# Altium integrated library Altium_WE-TVS (rev20a).IntLib: 32 symbols
Pins are listed as number, name and electrical type; pins without a type are passive.

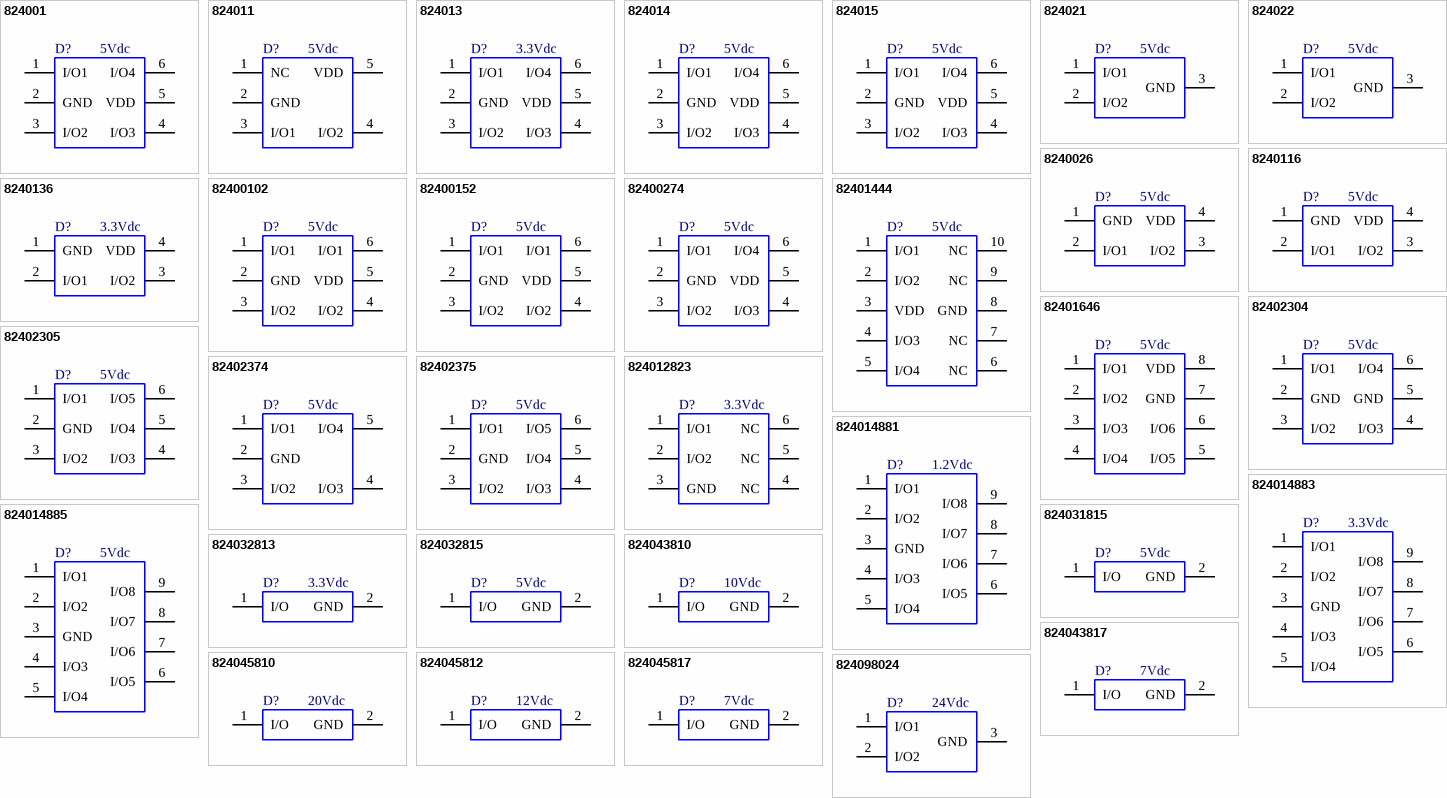
[diagram p0: symbols 824001 to 824098024]

## 824001
designator D?, comment 5Vdc
WE-TVS TVS Diode - High Speed Series, SOT23-6L, 4+1Channel, 5Vdc; Manufacturer Part Number: 824001; Manufacturer: Wurth Elektronik; Reverse Breakdown Voltage min.: 6.2V; Channel: 4+1; Channel Input Capacitance: 1pF; Reverse Peak Pulse Current: 5A; Reverse Channel Leakage Current: 5uA; DC Operating Voltage: 5V; ComponentLink1Description: Manufacturer; ComponentLink1URL: http://www.we-online.de; ComponentLink2Description: Datasheet; ComponentLink2URL: https://www.we-online.com/catalog/datasheet/824001.pdf; Published Date: April 2020; Size: SOT23-6L; Operating Temperature: -40 to +125degC; Mounting Technology: SMT; Packaging: Tape and Reel
footprint WE-TVS_SOT23-6L
pins: 1 I/O1, 2 GND, 3 I/O2, 4 I/O3, 5 VDD, 6 I/O4

## 824011
designator D?, comment 5Vdc
WE-TVS TVS Diode - High Speed Series, SOT23-5L, 2+1Channel, 5Vdc; Manufacturer Part Number: 824011; Manufacturer: Wurth Elektronik; Reverse Breakdown Voltage min.: 6.1V; Channel: 2+1; Channel Input Capacitance: 2pF; Reverse Peak Pulse Current: 12A; Reverse Channel Leakage Current: 5uA; DC Operating Voltage: 5V; ComponentLink1Description: Manufacturer; ComponentLink1URL: http://www.we-online.de; ComponentLink2Description: Datasheet; ComponentLink2URL: https://www.we-online.com/catalog/datasheet/824011.pdf; Published Date: April 2020; Size: SOT23-5L; Operating Temperature: -55 to +125degC; Mounting Technology: SMT; Packaging: Tape and Reel
footprint WE-TVS_SOT23-5L
pins: 1 NC, 2 GND, 3 I/O1, 4 I/O2, 5 VDD

## 824013
designator D?, comment 3.3Vdc
WE-TVS TVS Diode - High Speed Series, SOT23-6L, 4+1Channel, 3.3Vdc; Manufacturer Part Number: 824013; Manufacturer: Wurth Elektronik; Reverse Breakdown Voltage min.: 4.5V; Channel: 4+1; Channel Input Capacitance: 3pF; Reverse Peak Pulse Current: 12A; Reverse Channel Leakage Current: 5uA; DC Operating Voltage: 3.3V; ComponentLink1Description: Manufacturer; ComponentLink1URL: http://www.we-online.de; ComponentLink2Description: Datasheet; ComponentLink2URL: https://www.we-online.com/catalog/datasheet/824013.pdf; Published Date: April 2020; Size: SOT23-6L; Operating Temperature: -40 to +125degC; Mounting Technology: SMT; Packaging: Tape and Reel
footprint WE-TVS_SOT23-6L
pins: 1 I/O1, 2 GND, 3 I/O2, 4 I/O3, 5 VDD, 6 I/O4

## 824014
designator D?, comment 5Vdc
WE-TVS TVS Diode - Super Speed Series, SOT23-6L, 4+1Channel, 5Vdc; Manufacturer Part Number: 824014; Manufacturer: Wurth Elektronik; Reverse Breakdown Voltage min.: 6V; Channel: 4+1; Channel Input Capacitance: 0.55pF; Reverse Peak Pulse Current: 4A; Reverse Channel Leakage Current: 5uA; DC Operating Voltage: 5V; ComponentLink1Description: Manufacturer; ComponentLink1URL: http://www.we-online.de; ComponentLink2Description: Datasheet; ComponentLink2URL: https://www.we-online.com/catalog/datasheet/824014.pdf; Published Date: April 2020; Size: SOT23-6L; Operating Temperature: -55 to +85degC; Mounting Technology: SMT; Packaging: Tape and Reel
footprint WE-TVS_SOT23-6L
pins: 1 I/O1, 2 GND, 3 I/O2, 4 I/O3, 5 VDD, 6 I/O4

## 824015
designator D?, comment 5Vdc
WE-TVS TVS Diode - High Speed Series, SOT23-6L, 4+1Channel, 5Vdc; Manufacturer Part Number: 824015; Manufacturer: Wurth Elektronik; Reverse Breakdown Voltage min.: 6.1V; Channel: 4+1; Channel Input Capacitance: 2pF; Reverse Peak Pulse Current: 12A; Reverse Channel Leakage Current: 2uA; DC Operating Voltage: 5V; ComponentLink1Description: Manufacturer; ComponentLink1URL: http://www.we-online.de; ComponentLink2Description: Datasheet; ComponentLink2URL: https://www.we-online.com/catalog/datasheet/824015.pdf; Published Date: April 2020; Size: SOT23-6L; Operating Temperature: -40 to +125degC; Mounting Technology: SMT; Packaging: Tape and Reel
footprint WE-TVS_SOT23-6L
pins: 1 I/O1, 2 GND, 3 I/O2, 4 I/O3, 5 VDD, 6 I/O4

## 824021
designator D?, comment 5Vdc
WE-TVS TVS Diode - Standard Series, SOT23-3L, 2Channel, 5Vdc; Manufacturer Part Number: 824021; Manufacturer: Wurth Elektronik; Reverse Breakdown Voltage min.: 6.1V; Channel: 2; Channel Input Capacitance: 55pF; Reverse Peak Pulse Current: 15A; Reverse Channel Leakage Current: 2.5uA; DC Operating Voltage: 5V; ComponentLink1Description: Manufacturer; ComponentLink1URL: http://www.we-online.de; ComponentLink2Description: Datasheet; ComponentLink2URL: https://www.we-online.com/catalog/datasheet/824021.pdf; Published Date: April 2020; Size: SOT23-3L; Operating Temperature: -55 to +125degC; Mounting Technology: SMT; Packaging: Tape and Reel
footprint WE-TVS_SOT23-3L
pins: 1 I/O1, 2 I/O2, 3 GND

## 824022
designator D?, comment 5Vdc
WE-TVS TVS Diode - Standard Series, SOT23-3L, 2Channel, 5Vdc; Manufacturer Part Number: 824022; Manufacturer: Wurth Elektronik; Reverse Breakdown Voltage min.: 6.1V; Channel: 2; Channel Input Capacitance: 12pF; Reverse Peak Pulse Current: 8A; Reverse Channel Leakage Current: 2.5uA; DC Operating Voltage: 5V; ComponentLink1Description: Manufacturer; ComponentLink1URL: http://www.we-online.de; ComponentLink2Description: Datasheet; ComponentLink2URL: https://www.we-online.com/catalog/datasheet/824022.pdf; Published Date: April 2020; Size: SOT23-3L; Operating Temperature: -55 to +125degC; Mounting Technology: SMT; Packaging: Tape and Reel
footprint WE-TVS_SOT23-3L
pins: 1 I/O1, 2 I/O2, 3 GND

## 8240026
designator D?, comment 5Vdc
WE-TVS TVS Diode - High Speed Series, SOT143-4L, 2+1Channel, 5Vdc; Manufacturer Part Number: 8240026; Manufacturer: Wurth Elektronik; Reverse Breakdown Voltage min.: 6V; Channel: 2+1; Channel Input Capacitance: 1.2pF; Reverse Peak Pulse Current: 6A; Reverse Channel Leakage Current: 1uA; DC Operating Voltage: 5V; ComponentLink1Description: Manufacturer; ComponentLink1URL: http://www.we-online.de; ComponentLink2Description: Datasheet; ComponentLink2URL: https://www.we-online.com/catalog/datasheet/8240026.pdf; Published Date: April 2020; Size: SOT143-4L; Operating Temperature: -55 to +125degC; Mounting Technology: SMT; Packaging: Tape and Reel
footprint WE-TVS_SOT143-4L
pins: 1 GND, 2 I/O1, 3 I/O2, 4 VDD

## 8240116
designator D?, comment 5Vdc
WE-TVS TVS Diode - High Speed Series, SOT143-4L, 2+1Channel, 5Vdc; Manufacturer Part Number: 8240116; Manufacturer: Wurth Elektronik; Reverse Breakdown Voltage min.: 6.1V; Channel: 2+1; Channel Input Capacitance: 2pF; Reverse Peak Pulse Current: 12A; Reverse Channel Leakage Current: 5uA; DC Operating Voltage: 5V; ComponentLink1Description: Manufacturer; ComponentLink1URL: http://www.we-online.de; ComponentLink2Description: Datasheet; ComponentLink2URL: https://www.we-online.com/catalog/datasheet/8240116.pdf; Published Date: April 2020; Size: SOT143-4L; Operating Temperature: -55 to +125degC; Mounting Technology: SMT; Packaging: Tape and Reel
footprint WE-TVS_SOT143-4L
pins: 1 GND, 2 I/O1, 3 I/O2, 4 VDD

## 8240136
designator D?, comment 3.3Vdc
WE-TVS TVS Diode - High Speed Series, SOT143-4L, 2+1Channel, 3.3Vdc; Manufacturer Part Number: 8240136; Manufacturer: Wurth Elektronik; Reverse Breakdown Voltage min.: 4.5V; Channel: 2+1; Channel Input Capacitance: 3pF; Reverse Peak Pulse Current: 12A; Reverse Channel Leakage Current: 5uA; DC Operating Voltage: 3.3V; ComponentLink1Description: Manufacturer; ComponentLink1URL: http://www.we-online.de; ComponentLink2Description: Datasheet; ComponentLink2URL: https://www.we-online.com/catalog/datasheet/8240136.pdf; Published Date: April 2020; Size: SOT143-4L; Operating Temperature: -55 to +125degC; Mounting Technology: SMT; Packaging: Tape and Reel
footprint WE-TVS_SOT143-4L
pins: 1 GND, 2 I/O1, 3 I/O2, 4 VDD

## 82400102
designator D?, comment 5Vdc
WE-TVS TVS Diode - High Speed Series, SOT23-6L, 2+1Channel, 5Vdc; Manufacturer Part Number: 82400102; Manufacturer: Wurth Elektronik; Reverse Breakdown Voltage min.: 6V; Channel: 2+1; Channel Input Capacitance: 2pF; Reverse Peak Pulse Current: 6A; Reverse Channel Leakage Current: 5uA; DC Operating Voltage: 5V; ComponentLink1Description: Manufacturer; ComponentLink1URL: http://www.we-online.de; ComponentLink2Description: Datasheet; ComponentLink2URL: https://www.we-online.com/catalog/datasheet/82400102.pdf; Published Date: April 2020; Size: SOT23-6L; Operating Temperature: -40 to +125degC; Mounting Technology: SMT; Packaging: Tape and Reel
footprint WE-TVS_SOT23-6L
pins: 1 I/O1, 2 GND, 3 I/O2, 4 I/O2, 5 VDD, 6 I/O1

## 82400152
designator D?, comment 5Vdc
WE-TVS TVS Diode - High Speed Series, SOT563, 2+1Channel, 5Vdc; Manufacturer Part Number: 82400152; Manufacturer: Wurth Elektronik; Reverse Breakdown Voltage min.: 6V; Channel: 2+1; Channel Input Capacitance: 2pF; Reverse Peak Pulse Current: 6A; Reverse Channel Leakage Current: 5uA; DC Operating Voltage: 5V; ComponentLink1Description: Manufacturer; ComponentLink1URL: http://www.we-online.de; ComponentLink2Description: Datasheet; ComponentLink2URL: https://www.we-online.com/catalog/datasheet/82400152.pdf; Published Date: April 2020; Size: SOT563; Operating Temperature: -40 to +125degC; Mounting Technology: SMT; Packaging: Tape and Reel
footprint WE-TVS_SOT563
pins: 1 I/O1, 2 GND, 3 I/O2, 4 I/O2, 5 VDD, 6 I/O1

## 82400274
designator D?, comment 5Vdc
WE-TVS TVS Diode - High Speed Series, SC70-6L, 4+1Channel, 5Vdc; Manufacturer Part Number: 82400274; Manufacturer: Wurth Elektronik; Reverse Breakdown Voltage min.: 6V; Channel: 4+1; Channel Input Capacitance: 1.2pF; Reverse Peak Pulse Current: 6A; Reverse Channel Leakage Current: 5uA; DC Operating Voltage: 5V; ComponentLink1Description: Manufacturer; ComponentLink1URL: http://www.we-online.de; ComponentLink2Description: Datasheet; ComponentLink2URL: https://www.we-online.com/catalog/datasheet/82400274.pdf; Published Date: April 2020; Size: SC70-6L; Operating Temperature: -55 to +85degC; Mounting Technology: SMT; Packaging: Tape and Reel
footprint WE-TVS_SC70-6L
pins: 1 I/O1, 2 GND, 3 I/O2, 4 I/O3, 5 VDD, 6 I/O4

## 82401444
designator D?, comment 5Vdc
WE-TVS TVS Diode - Super Speed Series, MSOP-10L, 4+1Channel, 5Vdc; Manufacturer Part Number: 82401444; Manufacturer: Wurth Elektronik; Reverse Breakdown Voltage min.: 6V; Channel: 4+1; Channel Input Capacitance: 0.6pF; Reverse Peak Pulse Current: 5A; Reverse Channel Leakage Current: 5uA; DC Operating Voltage: 5V; ComponentLink1Description: Manufacturer; ComponentLink1URL: http://www.we-online.de; ComponentLink2Description: Datasheet; ComponentLink2URL: https://www.we-online.com/catalog/datasheet/82401444.pdf; Published Date: April 2020; Size: MSOP-10L; Operating Temperature: -55 to +85degC; Mounting Technology: SMT; Packaging: Tape and Reel
footprint WE-TVS_MSOP-10L
pins: 1 I/O1, 2 I/O2, 3 VDD, 4 I/O3, 5 I/O4, 6 NC, 7 NC, 8 GND, 9 NC, 10 NC

## 82401646
designator D?, comment 5Vdc
WE-TVS TVS Diode - Super Speed Series, MSOP-8L, 6+1Channel, 5Vdc; Manufacturer Part Number: 82401646; Manufacturer: Wurth Elektronik; Reverse Breakdown Voltage min.: 6V; Channel: 6+1; Channel Input Capacitance: 0.2pF; Reverse Peak Pulse Current: 2.5A; Reverse Channel Leakage Current: 2.5uA; DC Operating Voltage: 5V; ComponentLink1Description: Manufacturer; ComponentLink1URL: http://www.we-online.de; ComponentLink2Description: Datasheet; ComponentLink2URL: https://www.we-online.com/catalog/datasheet/82401646.pdf; Published Date: April 2020; Size: MSOP-8L; Operating Temperature: -55 to +85degC; Mounting Technology: SMT; Packaging: Tape and Reel
footprint WE-TVS_MSOP-8L
pins: 1 I/O1, 2 I/O2, 3 I/O3, 4 I/O4, 5 I/O5, 6 I/O6, 7 GND, 8 VDD

## 82402304
designator D?, comment 5Vdc
WE-TVS TVS Diode - Standard Series, SOT23-6L, 4Channel, 5Vdc; Manufacturer Part Number: 82402304; Manufacturer: Wurth Elektronik; Reverse Breakdown Voltage min.: 6V; Channel: 4; Channel Input Capacitance: 13pF; Reverse Peak Pulse Current: 6A; Reverse Channel Leakage Current: 2.5uA; DC Operating Voltage: 5V; ComponentLink1Description: Manufacturer; ComponentLink1URL: http://www.we-online.de; ComponentLink2Description: Datasheet; ComponentLink2URL: https://www.we-online.com/catalog/datasheet/82402304.pdf; Published Date: April 2020; Size: SOT23-6L; Operating Temperature: -55 to +85degC; Mounting Technology: SMT; Packaging: Tape and Reel
footprint WE-TVS_SOT23-6L
pins: 1 I/O1, 2 GND, 3 I/O2, 4 I/O3, 5 GND, 6 I/O4

## 82402305
designator D?, comment 5Vdc
WE-TVS TVS Diode - Standard Series, SOT23-6L, 5Channel, 5Vdc; Manufacturer Part Number: 82402305; Manufacturer: Wurth Elektronik; Reverse Breakdown Voltage min.: 6V; Channel: 5; Channel Input Capacitance: 13pF; Reverse Peak Pulse Current: 6A; Reverse Channel Leakage Current: 2.5uA; DC Operating Voltage: 5V; ComponentLink1Description: Manufacturer; ComponentLink1URL: http://www.we-online.de; ComponentLink2Description: Datasheet; ComponentLink2URL: https://www.we-online.com/catalog/datasheet/82402305.pdf; Published Date: April 2020; Size: SOT23-6L; Operating Temperature: -55 to +85degC; Mounting Technology: SMT; Packaging: Tape and Reel
footprint WE-TVS_SOT23-6L
pins: 1 I/O1, 2 GND, 3 I/O2, 4 I/O3, 5 I/O4, 6 I/O5

## 82402374
designator D?, comment 5Vdc
WE-TVS TVS Diode - Standard Series, SC70-5L, 4Channel, 5Vdc; Manufacturer Part Number: 82402374; Manufacturer: Wurth Elektronik; Reverse Breakdown Voltage min.: 6V; Channel: 4; Channel Input Capacitance: 13pF; Reverse Peak Pulse Current: 6A; Reverse Channel Leakage Current: 2.5uA; DC Operating Voltage: 5V; ComponentLink1Description: Manufacturer; ComponentLink1URL: http://www.we-online.de; ComponentLink2Description: Datasheet; ComponentLink2URL: https://www.we-online.com/catalog/datasheet/82402374.pdf; Published Date: April 2020; Size: SC70-5L; Operating Temperature: -55 to +85degC; Mounting Technology: SMT; Packaging: Tape and Reel
footprint WE-TVS_SC70-5L
pins: 1 I/O1, 2 GND, 3 I/O2, 4 I/O3, 5 I/O4

## 82402375
designator D?, comment 5Vdc
WE-TVS TVS Diode - Standard Series, SC70-6L, 5Channel, 5Vdc; Manufacturer Part Number: 82402375; Manufacturer: Wurth Elektronik; Reverse Breakdown Voltage min.: 6V; Channel: 5; Channel Input Capacitance: 13pF; Reverse Peak Pulse Current: 6A; Reverse Channel Leakage Current: 2.5uA; DC Operating Voltage: 5V; ComponentLink1Description: Manufacturer; ComponentLink1URL: http://www.we-online.de; ComponentLink2Description: Datasheet; ComponentLink2URL: https://www.we-online.com/catalog/datasheet/82402375.pdf; Published Date: April 2020; Size: SC70-6L; Operating Temperature: -55 to +85degC; Mounting Technology: SMT; Packaging: Tape and Reel
footprint WE-TVS_SC70-6L
pins: 1 I/O1, 2 GND, 3 I/O2, 4 I/O3, 5 I/O4, 6 I/O5

## 824012823
designator D?, comment 3.3Vdc
WE-TVS TVS Diode - Super Speed Series, DFN1210-6L, 2Channel, 3.3Vdc; Manufacturer Part Number: 824012823; Manufacturer: Wurth Elektronik; Reverse Breakdown Voltage min.: 4.5V; Channel: 2; Channel Input Capacitance: 0.18pF; Reverse Peak Pulse Current: 3A; Reverse Channel Leakage Current: 0.5uA; DC Operating Voltage: 3.3V; ComponentLink1Description: Manufacturer; ComponentLink1URL: http://www.we-online.de; ComponentLink2Description: Datasheet; ComponentLink2URL: https://www.we-online.com/catalog/datasheet/824012823.pdf; Published Date: April 2020; Size: DFN1210-6L; Operating Temperature: -55 to +85degC; Mounting Technology: SMT; Packaging: Tape and Reel
footprint WE-TVS_DFN1210-6L
pins: 1 I/O1, 2 I/O2, 3 GND, 4 NC, 5 NC, 6 NC

## 824014881
designator D?, comment 1.2Vdc
WE-TVS TVS Diode - Super Speed Series, DFN3810-9L, 8Channel, 1.2Vdc; Manufacturer Part Number: 824014881; Manufacturer: Wurth Elektronik; Reverse Breakdown Voltage min.: 4.5V; Channel: 8; Channel Input Capacitance: 0.35pF; Reverse Peak Pulse Current: 4A; Reverse Channel Leakage Current: 0.5uA; DC Operating Voltage: 1.2V; ComponentLink1Description: Manufacturer; ComponentLink1URL: http://www.we-online.de; ComponentLink2Description: Datasheet; ComponentLink2URL: https://www.we-online.com/catalog/datasheet/824014881.pdf; Published Date: April 2020; Size: DFN3810-9L; Operating Temperature: -55 to +85degC; Mounting Technology: SMT; Packaging: Tape and Reel
footprint WE-TVS_DFN3810-9L
pins: 1 I/O1, 2 I/O2, 3 GND, 4 I/O3, 5 I/O4, 6 I/O5, 7 I/O6, 8 I/O7, 9 I/O8

## 824014883
designator D?, comment 3.3Vdc
WE-TVS TVS Diode - Super Speed Series, DFN3810-9L, 8Channel, 3.3Vdc; Manufacturer Part Number: 824014883; Manufacturer: Wurth Elektronik; Reverse Breakdown Voltage min.: 4.5V; Channel: 8; Channel Input Capacitance: 0.5pF; Reverse Peak Pulse Current: 5A; Reverse Channel Leakage Current: 1uA; DC Operating Voltage: 3.3V; ComponentLink1Description: Manufacturer; ComponentLink1URL: http://www.we-online.de; ComponentLink2Description: Datasheet; ComponentLink2URL: https://www.we-online.com/catalog/datasheet/824014883.pdf; Published Date: April 2020; Size: DFN3810-9L; Operating Temperature: -55 to +85degC; Mounting Technology: SMT; Packaging: Tape and Reel
footprint WE-TVS_DFN3810-9L
pins: 1 I/O1, 2 I/O2, 3 GND, 4 I/O3, 5 I/O4, 6 I/O5, 7 I/O6, 8 I/O7, 9 I/O8

## 824014885
designator D?, comment 5Vdc
WE-TVS TVS Diode - Super Speed Series, DFN3810-9L, 8Channel, 5Vdc; Manufacturer Part Number: 824014885; Manufacturer: Wurth Elektronik; Reverse Breakdown Voltage min.: 6V; Channel: 8; Channel Input Capacitance: 0.5pF; Reverse Peak Pulse Current: 5A; Reverse Channel Leakage Current: 1uA; DC Operating Voltage: 5V; ComponentLink1Description: Manufacturer; ComponentLink1URL: http://www.we-online.de; ComponentLink2Description: Datasheet; ComponentLink2URL: https://www.we-online.com/catalog/datasheet/824014885.pdf; Published Date: April 2020; Size: DFN3810-9L; Operating Temperature: -55 to +85degC; Mounting Technology: SMT; Packaging: Tape and Reel
footprint WE-TVS_DFN3810-9L
pins: 1 I/O1, 2 I/O2, 3 GND, 4 I/O3, 5 I/O4, 6 I/O5, 7 I/O6, 8 I/O7, 9 I/O8

## 824031815
designator D?, comment 5Vdc
WE-TVS TVS Diode - Standard Series, DFN1610-2L, 1Channel, 5Vdc; Manufacturer Part Number: 824031815; Manufacturer: Wurth Elektronik; Reverse Breakdown Voltage min.: 6V; Channel: 1; Channel Input Capacitance: 250pF; Reverse Peak Pulse Current: 80A; Reverse Channel Leakage Current: 1uA; DC Operating Voltage: 5V; ComponentLink1Description: Manufacturer; ComponentLink1URL: http://www.we-online.de; ComponentLink2Description: Datasheet; ComponentLink2URL: https://www.we-online.com/catalog/datasheet/824031815.pdf; Published Date: April 2020; Size: DFN1610-2L; Operating Temperature: -55 to +85degC; Mounting Technology: SMT; Packaging: Tape and Reel
footprint WE-TVS_DFN1610-2L
pins: 1 I/O, 2 GND

## 824032813
designator D?, comment 3.3Vdc
WE-TVS TVS Diode - Standard Series, DFN1610-2L, 1Channel, 3.3Vdc; Manufacturer Part Number: 824032813; Manufacturer: Wurth Elektronik; Reverse Breakdown Voltage min.: 4V; Channel: 1; Channel Input Capacitance: 280pF; Reverse Peak Pulse Current: 180A; Reverse Channel Leakage Current: 0.5uA; DC Operating Voltage: 3.3V; ComponentLink1Description: Manufacturer; ComponentLink1URL: http://www.we-online.de; ComponentLink2Description: Datasheet; ComponentLink2URL: https://www.we-online.com/catalog/datasheet/824032813.pdf; Published Date: April 2020; Size: DFN1610-2L; Operating Temperature: -55 to +85degC; Mounting Technology: SMT; Packaging: Tape and Reel
footprint WE-TVS_DFN1610-2L
pins: 1 I/O, 2 GND

## 824032815
designator D?, comment 5Vdc
WE-TVS TVS Diode - Standard Series, DFN1610-2L, 1Channel, 5Vdc; Manufacturer Part Number: 824032815; Manufacturer: Wurth Elektronik; Reverse Breakdown Voltage min.: 6V; Channel: 1; Channel Input Capacitance: 140pF; Reverse Peak Pulse Current: 100A; Reverse Channel Leakage Current: 1uA; DC Operating Voltage: 5V; ComponentLink1Description: Manufacturer; ComponentLink1URL: http://www.we-online.de; ComponentLink2Description: Datasheet; ComponentLink2URL: https://www.we-online.com/catalog/datasheet/824032815.pdf; Published Date: April 2020; Size: DFN1610-2L; Operating Temperature: -55 to +85degC; Mounting Technology: SMT; Packaging: Tape and Reel
footprint WE-TVS_DFN1610-2L
pins: 1 I/O, 2 GND

## 824043810
designator D?, comment 10Vdc
WE-TVS TVS Diode - Standard Series, DFN2020-2L, 1Channel, 10Vdc; Manufacturer Part Number: 824043810; Manufacturer: Wurth Elektronik; Reverse Breakdown Voltage min.: 11.2V; Channel: 1; Channel Input Capacitance: 950pF; Reverse Peak Pulse Current: 150A; Reverse Channel Leakage Current: 1uA; DC Operating Voltage: 10V; ComponentLink1Description: Manufacturer; ComponentLink1URL: http://www.we-online.de; ComponentLink2Description: Datasheet; ComponentLink2URL: https://www.we-online.com/catalog/datasheet/824043810.pdf; Published Date: April 2020; Size: DFN2020-2L; Operating Temperature: -55 to +85degC; Mounting Technology: SMT; Packaging: Tape and Reel
footprint WE-TVS_DFN2020-2L
pins: 1 I/O, 2 GND

## 824043817
designator D?, comment 7Vdc
WE-TVS TVS Diode - Standard Series, DFN2020-2L, 1Channel, 7Vdc; Manufacturer Part Number: 824043817; Manufacturer: Wurth Elektronik; Reverse Breakdown Voltage min.: 7.8V; Channel: 1; Channel Input Capacitance: 1650pF; Reverse Peak Pulse Current: 180A; Reverse Channel Leakage Current: 1uA; DC Operating Voltage: 7V; ComponentLink1Description: Manufacturer; ComponentLink1URL: http://www.we-online.de; ComponentLink2Description: Datasheet; ComponentLink2URL: https://www.we-online.com/catalog/datasheet/824043817.pdf; Published Date: April 2020; Size: DFN2020-2L; Operating Temperature: -55 to +85degC; Mounting Technology: SMT; Packaging: Tape and Reel
footprint WE-TVS_DFN2020-2L
pins: 1 I/O, 2 GND

## 824045810
designator D?, comment 20Vdc
WE-TVS TVS Diode - Standard Series, DFN1610-2L, 1Channel, 20Vdc; Manufacturer Part Number: 824045810; Manufacturer: Wurth Elektronik; Reverse Breakdown Voltage min.: 22.8V; Channel: 1; Channel Input Capacitance: 240pF; Reverse Peak Pulse Current: 24A; Reverse Channel Leakage Current: 1uA; DC Operating Voltage: 20V; ComponentLink1Description: Manufacturer; ComponentLink1URL: http://www.we-online.de; ComponentLink2Description: Datasheet; ComponentLink2URL: https://www.we-online.com/catalog/datasheet/824045810.pdf; Published Date: April 2020; Size: DFN1610-2L; Operating Temperature: -55 to +85degC; Mounting Technology: SMT; Packaging: Tape and Reel
footprint WE-TVS_DFN1610-2L
pins: 1 I/O, 2 GND

## 824045812
designator D?, comment 12Vdc
WE-TVS TVS Diode - Standard Series, DFN1610-2L, 1Channel, 12Vdc; Manufacturer Part Number: 824045812; Manufacturer: Wurth Elektronik; Reverse Breakdown Voltage min.: 13.3V; Channel: 1; Channel Input Capacitance: 440pF; Reverse Peak Pulse Current: 38A; Reverse Channel Leakage Current: 0.1uA; DC Operating Voltage: 12V; ComponentLink1Description: Manufacturer; ComponentLink1URL: http://www.we-online.de; ComponentLink2Description: Datasheet; ComponentLink2URL: https://www.we-online.com/catalog/datasheet/824045812.pdf; Published Date: April 2020; Size: DFN1610-2L; Operating Temperature: -55 to +85degC; Mounting Technology: SMT; Packaging: Tape and Reel
footprint WE-TVS_DFN1610-2L
pins: 1 I/O, 2 GND

## 824045817
designator D?, comment 7Vdc
WE-TVS TVS Diode - Standard Series, DFN1610-2L, 1Channel, 7Vdc; Manufacturer Part Number: 824045817; Manufacturer: Wurth Elektronik; Reverse Breakdown Voltage min.: 7.8V; Channel: 1; Channel Input Capacitance: 830pF; Reverse Peak Pulse Current: 60A; Reverse Channel Leakage Current: 1uA; DC Operating Voltage: 7V; ComponentLink1Description: Manufacturer; ComponentLink1URL: http://www.we-online.de; ComponentLink2Description: Datasheet; ComponentLink2URL: https://www.we-online.com/catalog/datasheet/824045817.pdf; Published Date: April 2020; Size: DFN1610-2L; Operating Temperature: -55 to +85degC; Mounting Technology: SMT; Packaging: Tape and Reel
footprint WE-TVS_DFN1610-2L
pins: 1 I/O, 2 GND

## 824098024
designator D?, comment 24Vdc
WE-TVS TVS Diode - Standard Series, SOT23-3L, 2Channel, 24Vdc; Manufacturer Part Number: 824098024; Manufacturer: Wurth Elektronik; Reverse Breakdown Voltage min.: 26.2V; Channel: 2; Channel Input Capacitance: 35pF; Reverse Peak Pulse Current: 6A; Reverse Channel Leakage Current: 0.5uA; DC Operating Voltage: 24V; ComponentLink1Description: Manufacturer; ComponentLink1URL: http://www.we-online.de; ComponentLink2Description: Datasheet; ComponentLink2URL: https://www.we-online.com/catalog/datasheet/824098024.pdf; Published Date: April 2020; Size: SOT23-3L; Operating Temperature: -55 to +125degC; Mounting Technology: SMT; Packaging: Tape and Reel
footprint WE-TVS_SOT23-3L
pins: 1 I/O1, 2 I/O2, 3 GND